# EAGLE library part MAX13488 (library SparkFun-DigitalIC)
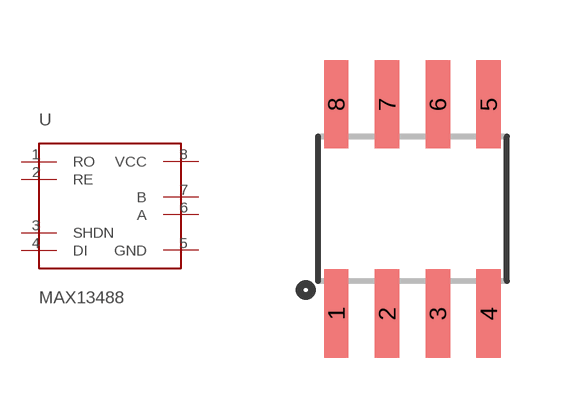
[diagram p137: symbol with the pads of SOIC8; footprint SOIC8]

Designator prefix -

## MAX13488  [SOIC8]
1  RO
2  RE
3  SHDN
4  DI
5  GND
6  A
7  B
8  VCC

## Footprint SOIC8 (pad centres in mm)
SOIC 8-Lead
smd 0.61 x 2.21: 1 -1.905,-2.616; 2 -0.635,-2.616; 3 0.635,-2.616; 4 1.905,-2.616; 5 1.905,2.616; 6 0.635,2.616; 7 -0.635,2.616; 8 -1.905,2.616